# EAGLE library part NC7WZ04 (library NewSDR)
National TinyLogiic UHS Dual Inverter
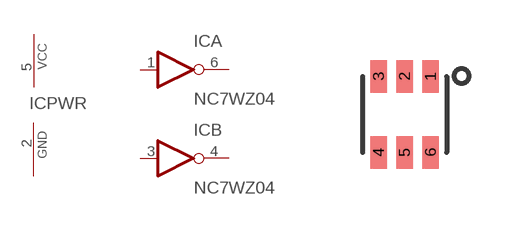
[diagram p122: symbol with the pads of SC-70_M; footprint SC-70_M]

Designator prefix IC; gates A=7404 PWR=PWRN B=7404

## NC7WZ04P6XCT  [SC-70_M]
1  A:I  in
2  PWR:GND  pwr
3  B:I  in
4  B:O  out
5  PWR:VCC  pwr
6  A:O  out

## Footprint SC-70_M (pad centres in mm)
smd 0.406 x 0.813: 1 0.65,0.95; 2 0,0.95; 3 -0.65,0.95; 4 -0.65,-0.95; 5 0,-0.95; 6 0.65,-0.95